# Altium schematic symbol library STM32U031K8U6.SchLib: 1 symbol
Pins are listed as number, name and electrical type; pins without a type are passive.

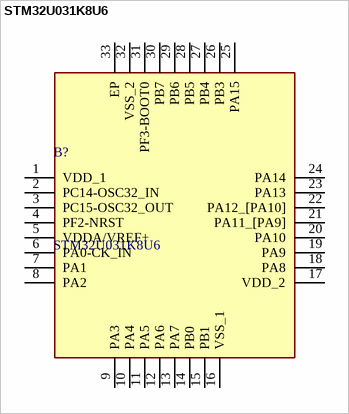
[diagram p0: symbol STM32U031K8U6]

## STM32U031K8U6
designator B?
Ultra-low-power features (ultra-low-power devices)  1.71 V to 3.6 V power supply  -40 C to 85/125 C temperature range  VBAT mode: 130 nA (with RTC and 9 x 32-bit backup registers)  Shutdown mode (4 wake-up pins): 16 nA  Standby mode (4 wake-up pins): 160 nA with RTC, 30 nA without RTC  Stop 2 mode: 630 nA with RTC, 515 nA without RTC  Run mode (LDO mode): 52 uA/MHz  Batch acquisition mode (BAM)  4 us wake-up from Stop mode  Brownout reset (BOR); Manufacturer_Name: STMicroelectronics; Geometry.Height: 0.6mm; Manufacturer_Part_Number: STM32U031K8U6; Mouser Part Number: 511-STM32U031K8U6; Mouser Price/Stock: https://www.mouser.co.uk/ProductDetail/STMicroelectronics/STM32U031K8U6?qs=dbcCsuKDzFUeNQ2GzBLCmw%3D%3D; Arrow Part Number: *; Arrow Price/Stock: *; Datasheet Link: https://www.st.com/resource/en/datasheet/stm32u031f4.pdf
footprint QFN50P500X500X60-33N-D
pins: 1 VDD_1, 2 PC14-OSC32_IN, 3 PC15-OSC32_OUT, 4 PF2-NRST, 5 VDDA/VREF+, 6 PA0-CK_IN, 7 PA1, 8 PA2, 9 PA3, 10 PA4, 11 PA5, 12 PA6, 13 PA7, 14 PB0, 15 PB1, 16 VSS_1, 17 VDD_2, 18 PA8, 19 PA9, 20 PA10, 21 PA11_[PA9], 22 PA12_[PA10], 23 PA13, 24 PA14, 25 PA15, 26 PB3, 27 PB4, 28 PB5, 29 PB6, 30 PB7, 31 PF3-BOOT0, 32 VSS_2, 33 EP